# Altium integrated library LDO.IntLib: 6 symbols
Pins are listed as number, name and electrical type; pins without a type are passive.

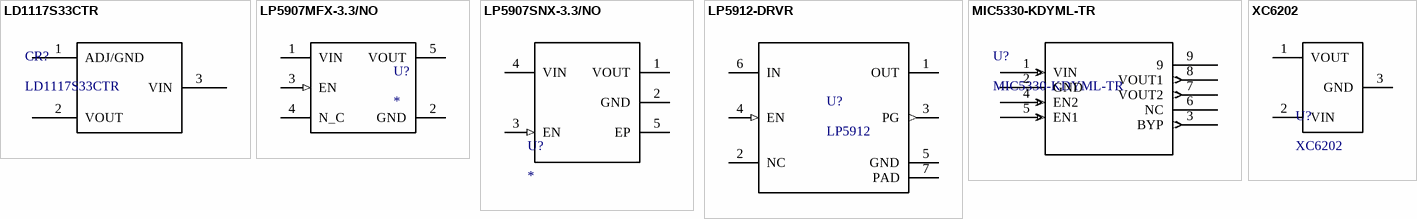
[diagram p0: symbols LD1117S33CTR to XC6202]

## LD1117S33CTR
designator CR?
No Description Available; Mfr_Name: STMicroelectronics; Type: DEV; Copyright: Copyright (C) 2021 Ultra Librarian. All rights reserved.; Manufacturer_Part_Number: LD1117S33CTR; Digi-Key_Part_Number_1: 497-1241-1-ND; Digi-Key_Part_Number_2: 497-1241-2-ND; Digi-Key_Part_Number_3: 497-1241-6-ND; RefDes: RefDes
footprint SOT223
pins: 1 ADJ/GND, 2 VOUT (power), 3 VIN (power)

## LP5907MFX-3.3/NO
designator U?
Imported; PartNumber: LP5907MFX-1.2/NOPB; Manufacturer: Texas Instruments; RefDes: RefDes; TYPE: TYPE; Value: Value
footprint SOT23-5
pins: 1 VIN (power), 2 GND (power), 3 EN (in), 4 N_C, 5 VOUT (power)

## LP5907SNX-3.3/NO
designator U?
Imported; PartNumber: LP5907SNX-4.0/NOPB; Manufacturer: Texas Instruments; CompType: IC; PIN_COUNT: 5; Application_BuildNumber: *; PackageReference: DQN0004A; MountType: SMT; RoHS: Y; RefDes: RefDes; TYPE: TYPE; Value: Value
footprint XDFN-4
pins: 1 VOUT (power), 2 GND (power), 3 EN (in), 4 VIN (power), 5 EP (power)

## LP5912-DRVR
designator U?, comment LP5912
LDO; PartNumber: LP5912-1.1DRVR; Manufacturer: Texas Instruments; RefDes: RefDes; Type: DEV; Value: Value; Copyright: Copyright (C) 2018 Accelerated Designs. All rights reserved
footprint WSON6
pins: 1 OUT (power), 2 NC, 3 PG (out), 4 EN (in), 5 GND (power), 6 IN (power), 7 PAD (power)

## MIC5330-KDYML-TR
designator U?
No Description Available; Mfr_Name: Microchip; Copyright: Copyright (C) 2021 Ultra Librarian. All rights reserved.; Manufacturer_Part_Number: MIC5330-KDYML-TR; RefDes: RefDes; Type: DEV
footprint MIC5330
pins: 1 VIN (in), 2 GND (power), 3 BYP (out), 4 EN2 (in), 5 EN1 (in), 6 NC, 7 VOUT2 (out), 8 VOUT1 (out), 9

## XC6202
designator U?
footprint SOT23-3
pins: 1 VOUT (power), 2 VIN (power), 3 GND (power)